# Altium footprint library HDMI-MIPI-Bridge.PcbLib: 13 footprints
Each footprint in its own frame and in the unit in brackets; x right, y up, seen from the top. Pads: shape width x height; smd on the part's side, far side on the other; paste and mask are expansions set on the pad; w line width, h text height; cw(c..) or ccw(c..) is an arc to the next point about the centre after c.
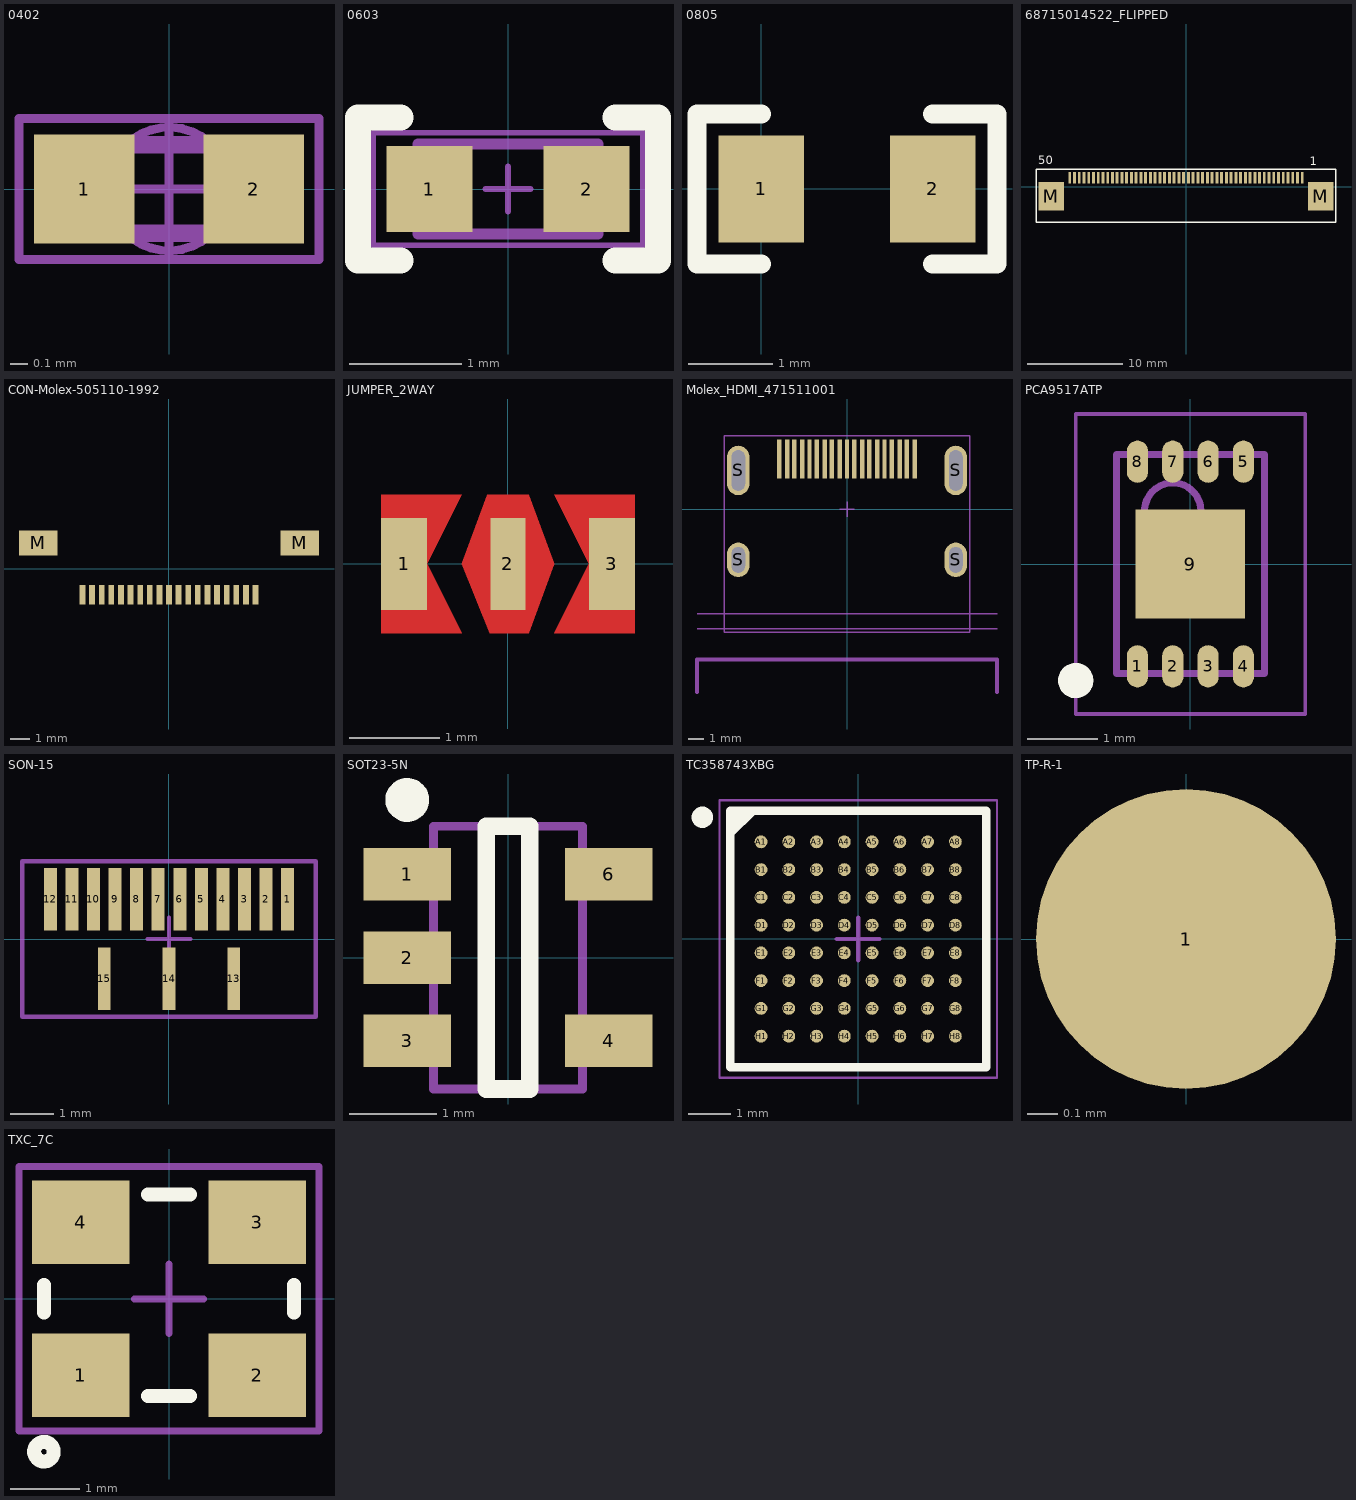
[diagram p0: the footprints below, top view; thin cyan lines are the x and y axes]

## 0402 [mm]
height 0.35
pads (2):
  rect 0.57x0.62 smd: 1(-0.48,0) 2(0.48,0)
Mechanical 3:
  circle w0.05: c0,0 r0.35
  lines w0.05: -0.5,0 0.5,0 ; 0,-0.4 0,0.4 ; -0.85,-0.4 -0.85,0.4 0.85,0.4 0.85,-0.4 -0.85,-0.4
Mechanical 13:
  lines w0.1: -0.5,-0.25 -0.5,0.25 0.5,0.25 0.5,-0.25 -0.5,-0.25
3D body: height 0.35, standoff 0, extent -0.525,-0.275 0.525,0.275

## 0603 [mil]
pads (2):
  rect 30x30 smd: 1(-27.5,0) 2(27.5,0)
Top Overlay:
  lines w9: -37.5,-25 -52.5,-25 -52.5,25 -37.5,25 ; 37.5,-25 52.5,-25 52.5,25 37.5,25
Mechanical 3:
  lines w2: -7.87,0 7.87,0 ; 0,-7.87 0,7.87 ; -47.24,-19.68 -47.24,19.68 47.24,19.68 47.24,-19.68 -47.24,-19.68
Mechanical 13:
  lines w3.94: -31.5,-15.75 31.5,-15.75 31.5,15.75 -31.5,15.75 -31.5,-15.75
3D body: height 18.21, standoff -0.49, extent -32.39,-16.23 32.53,16.25

## 0805 [mil]
pads (2):
  rect 40x50 smd: 1(0,0) 2(80,0)
Top Overlay:
  lines w9: 0,-35 -30,-35 -30,35 0,35 ; 80,-35 110,-35 110,35 80,35
3D body: height 37.4, standoff 0, extent 0,-22.63 78.74,24.61

## 68715014522_FLIPPED [mm] "50 pins"
height 2.1
pads (52):
  rect 0.3x1.2 smd: 1(12.25,0.99) 2(11.75,0.99) 3(11.25,0.99) 4(10.75,0.99) 5(10.25,0.99) 6(9.75,0.99) 7(9.25,0.99) 8(8.75,0.99) 9(8.25,0.99) 10(7.75,0.99) 11(7.25,0.99) 12(6.75,0.99) 13(6.25,0.99) 14(5.75,0.99) 15(5.25,0.99) 16(4.75,0.99) 17(4.25,0.99) 18(3.75,0.99) 19(3.25,0.99) 20(2.75,0.99) 21(2.25,0.99) 22(1.75,0.99) 23(1.25,0.99) 24(0.75,0.99) 25(0.25,0.99) 26(-0.25,0.99) 27(-0.75,0.99) 28(-1.25,0.99) 29(-1.75,0.99) 30(-2.25,0.99) 31(-2.75,0.99) 32(-3.25,0.99) 33(-3.75,0.99) 34(-4.25,0.99) 35(-4.75,0.99) 36(-5.25,0.99) 37(-5.75,0.99) 38(-6.25,0.99) 39(-6.75,0.99) 40(-7.25,0.99) 41(-7.75,0.99) 42(-8.25,0.99) 43(-8.75,0.99) 44(-9.25,0.99) 45(-9.75,0.99) 46(-10.25,0.99) 47(-10.75,0.99) 48(-11.25,0.99) 49(-11.75,0.99) 50(-12.25,0.99)
  rect 2.7x3 smd: M(-14.18,-0.99) M(14.18,-0.99)
Top Overlay:
  lines w0.15: -15.8,-3.71 -15.8,1.89 15.8,1.89 15.8,-3.71 -15.8,-3.71
  text "1" at 13.033,2.311 h0.9
  text "50" at -15.568,2.388 h0.9
3D body: height 2.06, standoff -0.04, extent -15.7,-3.71 15.7,1.39

## CON-Molex-505110-1992 [mm]
height 1.9
pads (21):
  rect 0.3x1 smd: 1(-4.5,-1.35) 2(-4,-1.35) 3(-3.5,-1.35) 4(-3,-1.35) 5(-2.5,-1.35) 6(-2,-1.35) 7(-1.5,-1.35) 8(-1,-1.35) 9(-0.5,-1.35) 10(0,-1.35) 11(0.5,-1.35) 12(1,-1.35) 13(1.5,-1.35) 14(2,-1.35) 15(2.5,-1.35) 16(3,-1.35) 17(3.5,-1.35) 18(4,-1.35) 19(4.5,-1.35)
  rect 2x1.3 smd: M(-6.8,1.35) M(6.8,1.35)
3D body: height 1.91, standoff 0.01, extent -7.445,-1.634 7.555,3.666

## JUMPER_2WAY [mil]
pads (3):
  rect 20x40 smd paste-10: 1(-45,0) 3(45,0)
  rect 15x40 smd paste-10: 2(0,0)
Top Layer:
  region: -55,30 -20,30 -35,0 -20,-30 -55,-30
  region: 55,-30 20,-30 35,0 20,30 55,30
  region: -9,30 -20,0 -8,-30 9,-30 20,0 9,30
Top Solder:
  region: -57,32 -57,-32 57,-32 57,32

## Molex_HDMI_471511001 [mm] "HEADER, RIGHT ANGLE, HDMI"
height 5
pads (23):
  rect 0.3x2.6 smd: 1(4.5,3.36) 2(4,3.36) 3(3.5,3.36) 4(3,3.36) 5(2.5,3.36) 6(2,3.36) 7(1.5,3.36) 8(1,3.36) 9(0.5,3.36) 10(0,3.36) 11(-0.5,3.36) 12(-1,3.36) 13(-1.5,3.36) 14(-2,3.36) 15(-2.5,3.36) 16(-3,3.36) 17(-3.5,3.36) 18(-4,3.36) 19(-4.5,3.36)
  oval 1.5x2.3 hole 0.9 slot 1.7 at 90 deg: S(-7.25,-3.36) S(7.25,-3.36)
  oval 1.5x3.3 hole 0.9 slot 2.7 at 90 deg: S(-7.25,2.6) S(7.25,2.6)
Mechanical 3:
  lines w0.254: -10,-12.175 -10,-10 10,-10 10,-12.175
  text "Typical plug (20mm)" at -7.05,-11.4 h0.76
Mechanical 15:
  lines w0.1: -0.5,0 0.5,0 ; 0,-0.5 0,0.5 ; -8.2,-8.2 8.2,-8.2 8.2,4.9 -8.2,4.9 -8.2,2.7 -8.2,-8.2
Mechanical 16:
  lines w0.1: -10,-7.95 10,-7.95 ; -10,-6.95 10,-6.95
Mechanical 17:
  text "PCB Edge" at -2.75,-6.2 h0.76
  text "Panel wall (front face)" at -7.85,-9.2 h0.76
3D body: height 6.28, standoff -2.1, extent -7.55,-8.075 7.45,4.075

## PCA9517ATP [mm]
height 0.75
pads (9):
  oval 0.3x0.6 smd: 1(-0.75,-1.45) 2(-0.25,-1.45) 3(0.25,-1.45) 4(0.75,-1.45) 5(0.75,1.45) 6(0.25,1.45) 7(-0.25,1.45) 8(-0.75,1.45)
  rect 1.55x1.55 smd: 9(0,0)
Top Overlay:
  circle w0.25: c-1.625,-1.651 r0.125
Mechanical 13:
  circle w0.1: c-0.25,0.75 r0.4
  lines w0.1: -1.05,-1.55 -1.05,1.55 1.05,1.55 1.05,-1.55 -1.05,-1.55
Mechanical 15:
  lines w0.05: -1.625,-2.125 -1.625,2.125 1.625,2.125 1.625,-2.125 -1.625,-2.125
  lines w0.1: -0.5,0 0.5,0 ; 0,-0.5 0,0.5
3D body: height 0.75, standoff 0.02, extent -1.05,-1.55 1.05,1.55

## SON-15 [mm]
height 0.8
pads (15):
  rect 0.3x1.45 smd: 1(2.75,0.925) 2(2.25,0.925) 3(1.75,0.925) 4(1.25,0.925) 5(0.75,0.925) 6(0.25,0.925) 7(-0.25,0.925) 8(-0.75,0.925) 9(-1.25,0.925) 10(-1.75,0.925) 11(-2.25,0.925) 12(-2.75,0.925) 13(1.5,-0.925) 14(0,-0.925) 15(-1.5,-0.925)
Mechanical 15:
  lines w0.1: -0.5,0 0.5,0 ; 0,-0.5 0,0.5 ; -3.4,-1.8 -3.4,1.8 -3.3,1.8 3.3,1.8 3.4,1.8 3.4,-1.8 3.3,-1.8 -3.4,-1.8
3D body: height 0.8, standoff -0.01, extent -3.3,-1.3 3.3,1.3

## SOT23-5N [mm] "SOT23, 5-Leads, Body 2,90x2,70mm, Pitch 0,95mm, IPC Medium Density"
height 1.45
pads (5):
  rect 1x0.6 smd: 1(-1.15,0.95) 2(-1.15,0) 3(-1.15,-0.95) 4(1.15,-0.95) 6(1.15,0.95)
Top Overlay:
  circle w0.25: c-1.15,1.8 r0.125
  lines w0.2: -0.25,-1.5 -0.25,1.5 0.25,1.5 0.25,-1.5 -0.25,-1.5
Mechanical 13:
  lines w0.1: -0.85,-1.5 -0.85,1.5 0.85,1.5 0.85,-1.5 -0.85,-1.5
3D body: height 1.1, standoff 0, extent -1.19,-1.462 1.21,1.438

## TC358743XBG [mm]
height 1.2
pads (64):
  round 0.3 smd mask+0: A1(-2.275,2.275) A2(-1.625,2.275) A3(-0.975,2.275) A4(-0.325,2.275) A5(0.325,2.275) A6(0.975,2.275) A7(1.625,2.275) A8(2.275,2.275) B1(-2.275,1.625) B2(-1.625,1.625) B3(-0.975,1.625) B4(-0.325,1.625) B5(0.325,1.625) B6(0.975,1.625) B7(1.625,1.625) B8(2.275,1.625) C1(-2.275,0.975) C2(-1.625,0.975) C3(-0.975,0.975) C4(-0.325,0.975) C5(0.325,0.975) C6(0.975,0.975) C7(1.625,0.975) C8(2.275,0.975) D1(-2.275,0.325) D2(-1.625,0.325) D3(-0.975,0.325) D4(-0.325,0.325) D5(0.325,0.325) D6(0.975,0.325) D7(1.625,0.325) D8(2.275,0.325) E1(-2.275,-0.325) E2(-1.625,-0.325) E3(-0.975,-0.325) E4(-0.325,-0.325) E5(0.325,-0.325) E6(0.975,-0.325) E7(1.625,-0.325) E8(2.275,-0.325) F1(-2.275,-0.975) F2(-1.625,-0.975) F3(-0.975,-0.975) F4(-0.325,-0.975) F5(0.325,-0.975) F6(0.975,-0.975) F7(1.625,-0.975) F8(2.275,-0.975) G1(-2.275,-1.625) G2(-1.625,-1.625) G3(-0.975,-1.625) G4(-0.325,-1.625) G5(0.325,-1.625) G6(0.975,-1.625) G7(1.625,-1.625) G8(2.275,-1.625) H1(-2.275,-2.275) H2(-1.625,-2.275) H3(-0.975,-2.275) H4(-0.325,-2.275) H5(0.325,-2.275) H6(0.975,-2.275) H7(1.625,-2.275) H8(2.275,-2.275)
Top Overlay:
  circle w0.25: c-3.65,2.85 r0.125
  region: -2.469,3 -3,2.469 -3,3
  lines w0.2: -3,2.469 -2.469,3 ; -3,-3 3,-3 3,3 -3,3 -3,-3
Mechanical 13:
  lines w0.1: -3,-3 3,-3 3,3 -3,3 -3,-3
Mechanical 15:
  lines w0.05: -3.25,-3.25 3.25,-3.25 3.25,3.25 -3.25,3.25 -3.25,-3.25
  lines w0.1: -0.5,0 0.5,0 ; 0,-0.5 0,0.5
3D body: height 1.2, standoff 0.33, extent -3,-3 3,3

## TP-R-1 [mm]
pads (1):
  round 1 smd: 1(0,0)

## TXC_7C [mm] "TXC 7C series oscillator"
height 2
pads (4):
  rect 1.4x1.2 smd: 1(-1.27,-1.1) 2(1.27,-1.1) 3(1.27,1.1) 4(-1.27,1.1)
Top Overlay:
  circle w0.2: c-1.8,-2.2 r0.141
  lines w0.2: -1.8,-0.2 -1.8,0.2 ; -0.3,-1.4 0.3,-1.4 ; -0.3,1.5 0.3,1.5 ; 1.8,-0.2 1.8,0.2
Mechanical 15:
  lines w0.1: -0.5,0 0.5,0 ; 0,-0.5 0,0.5 ; -2.159,-1.905 -2.159,1.905 2.159,1.905 2.159,-1.905 -2.159,-1.905
3D body: height 0.9, standoff -0.05, extent -2.5,-1.6 2.5,1.6